# Altium integrated library Wurth_Elektronik_Passive_rev16a.IntLib: 1143 symbols (part 6 of 28)
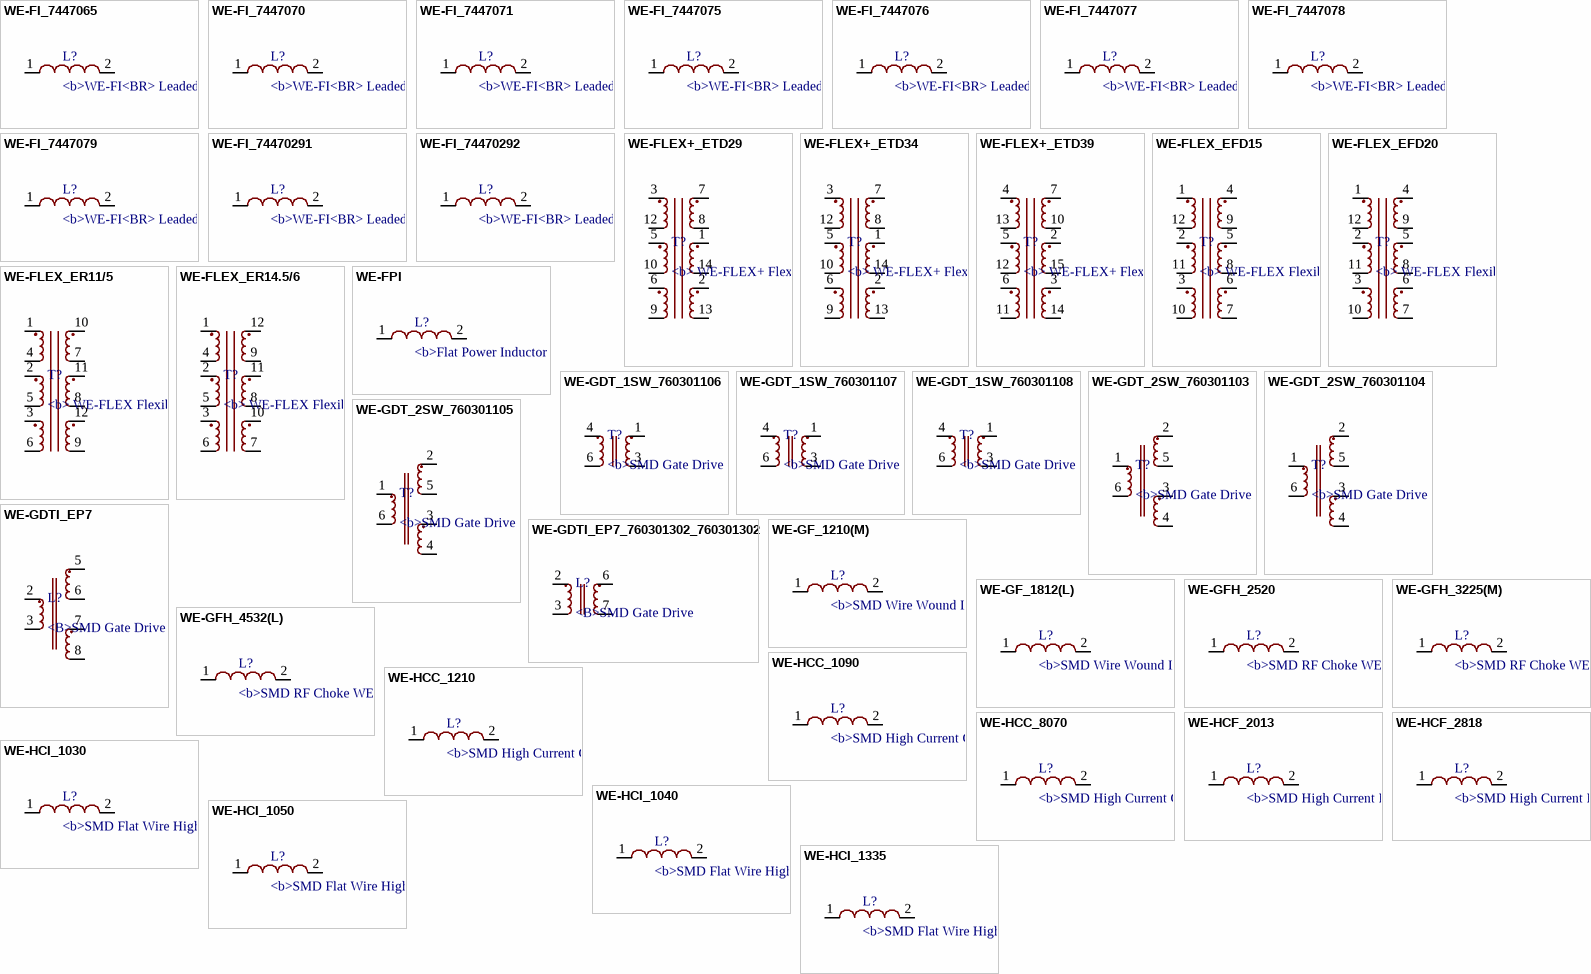
[diagram p63: symbols WE-FI_7447065 to WE-HCI_1335]

## WE-FI_7447070
designator L?, comment <b>WE-FI<BR> / Leaded Toroidal Line Choke</B> / <P> <font color="#0000FF"><B>Characteristics</B></font></td><BR> / Current loading up to 5 A<BR> / Iron powder cores with low losses<BR> / Low magnetically leakage field<BR> / Operating temperature: -25 C to +125 C<BR> / Custom designs on reques<BR> / <P> <font color="#0000FF"><B>Applications</B></font></td><BR> / Application in voltage transformers and power supplies<BR> / For interference frequencies up to 10 MHz; for switching frequencies up to 100 kHz<BR> / Perfect for filtering of symmetric interferences<BR> / <br><a href="http://katalog.we-online.de/media/thumbs2/eisos/thb_IndFI_pf2.jpg"> / <img src="http://katalog.we-online.de/media/thumbs2/eisos/thb_IndFI_pf2.jpg" width="320"></a><p> / Details see: <a href="http://katalog.we-online.de/pbs/datasheet/7447010.pdf">http://katalog.we-online.de/pbs/datasheet/7447010.pdf</a><p> / Updated on 2015-06-16<br> / 2015 (C) Wurth Elektronik
footprint WE-FI_7447070
pins: 1, 2

## WE-FI_7447071
designator L?, comment <b>WE-FI<BR> / Leaded Toroidal Line Choke</B> / <P> <font color="#0000FF"><B>Characteristics</B></font></td><BR> / Current loading up to 5 A<BR> / Iron powder cores with low losses<BR> / Low magnetically leakage field<BR> / Operating temperature: -25 C to +125 C<BR> / Custom designs on reques<BR> / <P> <font color="#0000FF"><B>Applications</B></font></td><BR> / Application in voltage transformers and power supplies<BR> / For interference frequencies up to 10 MHz; for switching frequencies up to 100 kHz<BR> / Perfect for filtering of symmetric interferences<BR> / <br><a href="http://katalog.we-online.de/media/thumbs2/eisos/thb_IndFI_pf2.jpg"> / <img src="http://katalog.we-online.de/media/thumbs2/eisos/thb_IndFI_pf2.jpg" width="320"></a><p> / Details see: <a href="http://katalog.we-online.de/pbs/datasheet/7447010.pdf">http://katalog.we-online.de/pbs/datasheet/7447010.pdf</a><p> / Updated on 2015-06-16<br> / 2015 (C) Wurth Elektronik
footprint WE-FI_7447071
pins: 1, 2

## WE-FI_7447075
designator L?, comment <b>WE-FI<BR> / Leaded Toroidal Line Choke</B> / <P> <font color="#0000FF"><B>Characteristics</B></font></td><BR> / Current loading up to 5 A<BR> / Iron powder cores with low losses<BR> / Low magnetically leakage field<BR> / Operating temperature: -25 C to +125 C<BR> / Custom designs on reques<BR> / <P> <font color="#0000FF"><B>Applications</B></font></td><BR> / Application in voltage transformers and power supplies<BR> / For interference frequencies up to 10 MHz; for switching frequencies up to 100 kHz<BR> / Perfect for filtering of symmetric interferences<BR> / <br><a href="http://katalog.we-online.de/media/thumbs2/eisos/thb_IndFI_pf2.jpg"> / <img src="http://katalog.we-online.de/media/thumbs2/eisos/thb_IndFI_pf2.jpg" width="320"></a><p> / Details see: <a href="http://katalog.we-online.de/pbs/datasheet/7447010.pdf">http://katalog.we-online.de/pbs/datasheet/7447010.pdf</a><p> / Updated on 2015-06-16<br> / 2015 (C) Wurth Elektronik
footprint WE-FI_7447075
pins: 1, 2

## WE-FI_7447076
designator L?, comment <b>WE-FI<BR> / Leaded Toroidal Line Choke</B> / <P> <font color="#0000FF"><B>Characteristics</B></font></td><BR> / Current loading up to 5 A<BR> / Iron powder cores with low losses<BR> / Low magnetically leakage field<BR> / Operating temperature: -25 C to +125 C<BR> / Custom designs on reques<BR> / <P> <font color="#0000FF"><B>Applications</B></font></td><BR> / Application in voltage transformers and power supplies<BR> / For interference frequencies up to 10 MHz; for switching frequencies up to 100 kHz<BR> / Perfect for filtering of symmetric interferences<BR> / <br><a href="http://katalog.we-online.de/media/thumbs2/eisos/thb_IndFI_pf2.jpg"> / <img src="http://katalog.we-online.de/media/thumbs2/eisos/thb_IndFI_pf2.jpg" width="320"></a><p> / Details see: <a href="http://katalog.we-online.de/pbs/datasheet/7447010.pdf">http://katalog.we-online.de/pbs/datasheet/7447010.pdf</a><p> / Updated on 2015-06-16<br> / 2015 (C) Wurth Elektronik
footprint WE-FI_7447076
pins: 1, 2

## WE-FI_7447077
designator L?, comment <b>WE-FI<BR> / Leaded Toroidal Line Choke</B> / <P> <font color="#0000FF"><B>Characteristics</B></font></td><BR> / Current loading up to 5 A<BR> / Iron powder cores with low losses<BR> / Low magnetically leakage field<BR> / Operating temperature: -25 C to +125 C<BR> / Custom designs on reques<BR> / <P> <font color="#0000FF"><B>Applications</B></font></td><BR> / Application in voltage transformers and power supplies<BR> / For interference frequencies up to 10 MHz; for switching frequencies up to 100 kHz<BR> / Perfect for filtering of symmetric interferences<BR> / <br><a href="http://katalog.we-online.de/media/thumbs2/eisos/thb_IndFI_pf2.jpg"> / <img src="http://katalog.we-online.de/media/thumbs2/eisos/thb_IndFI_pf2.jpg" width="320"></a><p> / Details see: <a href="http://katalog.we-online.de/pbs/datasheet/7447010.pdf">http://katalog.we-online.de/pbs/datasheet/7447010.pdf</a><p> / Updated on 2015-06-16<br> / 2015 (C) Wurth Elektronik
footprint WE-FI_7447077
pins: 1, 2

## WE-FI_7447078
designator L?, comment <b>WE-FI<BR> / Leaded Toroidal Line Choke</B> / <P> <font color="#0000FF"><B>Characteristics</B></font></td><BR> / Current loading up to 5 A<BR> / Iron powder cores with low losses<BR> / Low magnetically leakage field<BR> / Operating temperature: -25 C to +125 C<BR> / Custom designs on reques<BR> / <P> <font color="#0000FF"><B>Applications</B></font></td><BR> / Application in voltage transformers and power supplies<BR> / For interference frequencies up to 10 MHz; for switching frequencies up to 100 kHz<BR> / Perfect for filtering of symmetric interferences<BR> / <br><a href="http://katalog.we-online.de/media/thumbs2/eisos/thb_IndFI_pf2.jpg"> / <img src="http://katalog.we-online.de/media/thumbs2/eisos/thb_IndFI_pf2.jpg" width="320"></a><p> / Details see: <a href="http://katalog.we-online.de/pbs/datasheet/7447010.pdf">http://katalog.we-online.de/pbs/datasheet/7447010.pdf</a><p> / Updated on 2015-06-16<br> / 2015 (C) Wurth Elektronik
footprint WE-FI_7447078
pins: 1, 2

## WE-FI_7447079
designator L?, comment <b>WE-FI<BR> / Leaded Toroidal Line Choke</B> / <P> <font color="#0000FF"><B>Characteristics</B></font></td><BR> / Current loading up to 5 A<BR> / Iron powder cores with low losses<BR> / Low magnetically leakage field<BR> / Operating temperature: -25 C to +125 C<BR> / Custom designs on reques<BR> / <P> <font color="#0000FF"><B>Applications</B></font></td><BR> / Application in voltage transformers and power supplies<BR> / For interference frequencies up to 10 MHz; for switching frequencies up to 100 kHz<BR> / Perfect for filtering of symmetric interferences<BR> / <br><a href="http://katalog.we-online.de/media/thumbs2/eisos/thb_IndFI_pf2.jpg"> / <img src="http://katalog.we-online.de/media/thumbs2/eisos/thb_IndFI_pf2.jpg" width="320"></a><p> / Details see: <a href="http://katalog.we-online.de/pbs/datasheet/7447010.pdf">http://katalog.we-online.de/pbs/datasheet/7447010.pdf</a><p> / Updated on 2015-06-16<br> / 2015 (C) Wurth Elektronik
footprint WE-FI_7447079
pins: 1, 2

## WE-FI_74470291
designator L?, comment <b>WE-FI<BR> / Leaded Toroidal Line Choke</B> / <P> <font color="#0000FF"><B>Characteristics</B></font></td><BR> / Current loading up to 5 A<BR> / Iron powder cores with low losses<BR> / Low magnetically leakage field<BR> / Operating temperature: -25 C to +125 C<BR> / Custom designs on reques<BR> / <P> <font color="#0000FF"><B>Applications</B></font></td><BR> / Application in voltage transformers and power supplies<BR> / For interference frequencies up to 10 MHz; for switching frequencies up to 100 kHz<BR> / Perfect for filtering of symmetric interferences<BR> / <br><a href="http://katalog.we-online.de/media/thumbs2/eisos/thb_IndFI_pf2.jpg"> / <img src="http://katalog.we-online.de/media/thumbs2/eisos/thb_IndFI_pf2.jpg" width="320"></a><p> / Details see: <a href="http://katalog.we-online.de/pbs/datasheet/7447010.pdf">http://katalog.we-online.de/pbs/datasheet/7447010.pdf</a><p> / Updated on 2015-06-16<br> / 2015 (C) Wurth Elektronik
footprint WE-FI_74470291
pins: 1, 2

## WE-FI_74470292
designator L?, comment <b>WE-FI<BR> / Leaded Toroidal Line Choke</B> / <P> <font color="#0000FF"><B>Characteristics</B></font></td><BR> / Current loading up to 5 A<BR> / Iron powder cores with low losses<BR> / Low magnetically leakage field<BR> / Operating temperature: -25 C to +125 C<BR> / Custom designs on reques<BR> / <P> <font color="#0000FF"><B>Applications</B></font></td><BR> / Application in voltage transformers and power supplies<BR> / For interference frequencies up to 10 MHz; for switching frequencies up to 100 kHz<BR> / Perfect for filtering of symmetric interferences<BR> / <br><a href="http://katalog.we-online.de/media/thumbs2/eisos/thb_IndFI_pf2.jpg"> / <img src="http://katalog.we-online.de/media/thumbs2/eisos/thb_IndFI_pf2.jpg" width="320"></a><p> / Details see: <a href="http://katalog.we-online.de/pbs/datasheet/7447010.pdf">http://katalog.we-online.de/pbs/datasheet/7447010.pdf</a><p> / Updated on 2015-06-16<br> / 2015 (C) Wurth Elektronik
footprint WE-FI_74470292
pins: 1, 2

## WE-FLEX+_ETD29
designator T?, comment <b> WE-FLEX+ Flexible Transformer for DC/DC Converter / <br> / <br> / <br><b> Characteristics / <br> / <br></b></b> Transformer with 6 identical windings / <br> / <br> Power up to 300 W possible / <br> / <br> Isolation voltage 500 VDC / <br> / <br> Low leakage inductance / <br> / <br> Operating temperature: –40 °C to +125 °C / <br> / <br> / <br><b> Applications / <br> / <br></b> All kind of switching regulators / <br> -Flyback converters / <br> -Forward converters / <br> -Push-pull converters / <br> -Step-up/step-down converters / <br> -SEPIC converter / <br> / <br> / <br> / <br><a href="http://katalog.we-online.de/media/images/eisos/UtFlex_Plus_MID_pf2.jpg" title="Enlarge picture"> / <img src="http://katalog.we-online.de/media/images/eisos/UtFlex_Plus_MID_pf2.jpg" width="320"></a><p> / Details see: <a href="http://katalog.we-online.de/en/pbs/WE-FLEX_Plus?">http://katalog.we-online.de/en/pbs/WE-FLEX_Plus?</a><p> / Updated by  Dan Xu 2014-07-07<br> / 2014 (C) Wurth Elektronik
footprint WE_ETD29_THT_14PIN
pins: 1 4, 2 6, 3 1, 5 11, 6 9, 7 2, 8 3, 9 8, 10, 12, 13 7, 14 5

## WE-FLEX+_ETD34
designator T?, comment <b> WE-FLEX+ Flexible Transformer for DC/DC Converter / <br> / <br> / <br><b> Characteristics / <br> / <br></b></b> Transformer with 6 identical windings / <br> / <br> Power up to 300 W possible / <br> / <br> Isolation voltage 500 VDC / <br> / <br> Low leakage inductance / <br> / <br> Operating temperature: –40 °C to +125 °C / <br> / <br> / <br><b> Applications / <br> / <br></b> All kind of switching regulators / <br> -Flyback converters / <br> -Forward converters / <br> -Push-pull converters / <br> -Step-up/step-down converters / <br> -SEPIC converter / <br> / <br> / <br> / <br><a href="http://katalog.we-online.de/media/images/eisos/UtFlex_Plus_MID_pf2.jpg" title="Enlarge picture"> / <img src="http://katalog.we-online.de/media/images/eisos/UtFlex_Plus_MID_pf2.jpg" width="320"></a><p> / Details see: <a href="http://katalog.we-online.de/en/pbs/WE-FLEX_Plus?">http://katalog.we-online.de/en/pbs/WE-FLEX_Plus?</a><p> / Updated by  Dan Xu 2014-07-07<br> / 2014 (C) Wurth Elektronik
footprint WE_ETD34_THT_14PIN
pins: 1 4, 2 6, 3 1, 5 11, 6 9, 7 2, 8 3, 9 8, 10, 12, 13 7, 14 5

## WE-FLEX+_ETD39
designator T?, comment <b> WE-FLEX+ Flexible Transformer for DC/DC Converter / <br> / <br> / <br><b> Characteristics / <br> / <br></b></b> Transformer with 6 identical windings / <br> / <br> Power up to 300 W possible / <br> / <br> Isolation voltage 500 VDC / <br> / <br> Low leakage inductance / <br> / <br> Operating temperature: –40 °C to +125 °C / <br> / <br> / <br><b> Applications / <br> / <br></b> All kind of switching regulators / <br> -Flyback converters / <br> -Forward converters / <br> -Push-pull converters / <br> -Step-up/step-down converters / <br> -SEPIC converter / <br> / <br> / <br> / <br><a href="http://katalog.we-online.de/media/images/eisos/UtFlex_Plus_MID_pf2.jpg" title="Enlarge picture"> / <img src="http://katalog.we-online.de/media/images/eisos/UtFlex_Plus_MID_pf2.jpg" width="320"></a><p> / Details see: <a href="http://katalog.we-online.de/en/pbs/WE-FLEX_Plus?">http://katalog.we-online.de/en/pbs/WE-FLEX_Plus?</a><p> / Updated by  Dan Xu 2014-07-07<br> / 2014 (C) Wurth Elektronik
footprint WE_ETD39_THT_16PIN
pins: 2 4, 3 6, 4 1, 5 11, 6 9, 7 2, 10 3, 11 8, 12 10, 13 12, 14 7, 15 5

## WE-FLEX_EFD15
designator T?, comment <b> WE-FLEX Flexible Transformer for DC/DC Converter / <br> / <br> / <br><b> Characteristics / <br> / <br></b></b> Transformer with 6 identical windings / <BR> / <BR> 4 sizes with 5 different lengths of air gap each / <BR> / <BR> Insulation test voltage 500 VAC / <BR> / <BR> Low leakage inductance / <BR> / <BR> Operating temperature: –40 ºC to +125 ºC / <BR> / <BR> By using different circuits more than 375 transformer solutions and about 125 choke solutions possible. Consequently, quick prototyping possibilities / <br> / <br> / <br><b> Applications / <br> / <br></b> All kind of switching regulators / <br> / <br>-Flyback converters / <br>-Forward converters / <br>-Push-pull converters / <br>-Step-up/step-down converters / <br>-SEPIC converter / <br> / <br> / <br> / <br><a href="http://katalog.we-online.de/media/images/eisos/UtFlex_MID_pf2.jpg" title="Enlarge picture"> / <img src="http://katalog.we-online.de/media/images/eisos/UtFlex_MID_pf2.jpg" width="320"></a><p> / Details see: <a href="http://katalog.we-online.de/en/pbs/WE-FLEX?">http://katalog.we-online.de/en/pbs/WE-FLEX?</a><p> / Updated by  Dan Xu 2014-07-07<br> / 2014 (C) Wurth Elektronik
footprint WE-FLEX_EFD15
pins: 1, 2 11, 3 9, 4 2, 5 4, 6, 7, 8 5, 9 3, 10 8, 11 10, 12

## WE-FLEX_EFD20
designator T?, comment <b> WE-FLEX Flexible Transformer for DC/DC Converter / <br> / <br> / <br><b> Characteristics / <br> / <br></b></b> Transformer with 6 identical windings / <BR> / <BR> 4 sizes with 5 different lengths of air gap each / <BR> / <BR> Insulation test voltage 500 VAC / <BR> / <BR> Low leakage inductance / <BR> / <BR> Operating temperature: –40 ºC to +125 ºC / <BR> / <BR> By using different circuits more than 375 transformer solutions and about 125 choke solutions possible. Consequently, quick prototyping possibilities / <br> / <br> / <br><b> Applications / <br> / <br></b> All kind of switching regulators / <br> / <br>-Flyback converters / <br>-Forward converters / <br>-Push-pull converters / <br>-Step-up/step-down converters / <br>-SEPIC converter / <br> / <br> / <br> / <br><a href="http://katalog.we-online.de/media/images/eisos/UtFlex_MID_pf2.jpg" title="Enlarge picture"> / <img src="http://katalog.we-online.de/media/images/eisos/UtFlex_MID_pf2.jpg" width="320"></a><p> / Details see: <a href="http://katalog.we-online.de/en/pbs/WE-FLEX?">http://katalog.we-online.de/en/pbs/WE-FLEX?</a><p> / Updated by  Dan Xu 2014-07-07<br> / 2014 (C) Wurth Elektronik
footprint WE-FLEX_EFD20
pins: 1, 2 11, 3 9, 4 2, 5 4, 6, 7, 8 5, 9 3, 10 8, 11 10, 12

## WE-FLEX_ER11/5
designator T?, comment <b> WE-FLEX Flexible Transformer for DC/DC Converter / <br> / <br> / <br><b> Characteristics / <br> / <br></b></b> Transformer with 6 identical windings / <BR> / <BR> 4 sizes with 5 different lengths of air gap each / <BR> / <BR> Insulation test voltage 500 VAC / <BR> / <BR> Low leakage inductance / <BR> / <BR> Operating temperature: –40 ºC to +125 ºC / <BR> / <BR> By using different circuits more than 375 transformer solutions and about 125 choke solutions possible. Consequently, quick prototyping possibilities / <br> / <br> / <br><b> Applications / <br> / <br></b> All kind of switching regulators / <br> / <br>-Flyback converters / <br>-Forward converters / <br>-Push-pull converters / <br>-Step-up/step-down converters / <br>-SEPIC converter / <br> / <br> / <br> / <br><a href="http://katalog.we-online.de/media/images/eisos/UtFlex_MID_pf2.jpg" title="Enlarge picture"> / <img src="http://katalog.we-online.de/media/images/eisos/UtFlex_MID_pf2.jpg" width="320"></a><p> / Details see: <a href="http://katalog.we-online.de/en/pbs/WE-FLEX?">http://katalog.we-online.de/en/pbs/WE-FLEX?</a><p> / Updated by  Dan Xu 2014-07-07<br> / 2014 (C) Wurth Elektronik
footprint WE-FLEX_ER11/5
pins: 1, 2 11, 3 9, 4 12, 5 10, 6 8, 7 3, 8 5, 9 7, 10 2, 11 4, 12 6

## WE-FLEX_ER14.5/6
designator T?, comment <b> WE-FLEX Flexible Transformer for DC/DC Converter / <br> / <br> / <br><b> Characteristics / <br> / <br></b></b> Transformer with 6 identical windings / <BR> / <BR> 4 sizes with 5 different lengths of air gap each / <BR> / <BR> Insulation test voltage 500 VAC / <BR> / <BR> Low leakage inductance / <BR> / <BR> Operating temperature: –40 ºC to +125 ºC / <BR> / <BR> By using different circuits more than 375 transformer solutions and about 125 choke solutions possible. Consequently, quick prototyping possibilities / <br> / <br> / <br><b> Applications / <br> / <br></b> All kind of switching regulators / <br> / <br>-Flyback converters / <br>-Forward converters / <br>-Push-pull converters / <br>-Step-up/step-down converters / <br>-SEPIC converter / <br> / <br> / <br> / <br><a href="http://katalog.we-online.de/media/images/eisos/UtFlex_MID_pf2.jpg" title="Enlarge picture"> / <img src="http://katalog.we-online.de/media/images/eisos/UtFlex_MID_pf2.jpg" width="320"></a><p> / Details see: <a href="http://katalog.we-online.de/en/pbs/WE-FLEX?">http://katalog.we-online.de/en/pbs/WE-FLEX?</a><p> / Updated by  Dan Xu 2014-07-07<br> / 2014 (C) Wurth Elektronik
footprint WE-FLEX_ER14.5/6
pins: 1, 2 11, 3 9, 4 12, 5 10, 6 8, 7, 8 5, 9 3, 10 6, 11 4, 12 2

## WE-FPI
designator L?, comment <b>Flat Power Inductor WE-FPI</b><br><br> / - Extremely flat power inductor <= 1,1 mm<br> / - High current capability<br> / -- Portable power like PDA, digital camera, / PCMICA-cards and displays<br> / -- DC/DC-converter<br> / -- Recommended for switching regulator IC's from / Linear Technology, National Semiconductor, / Texas Instruments and Fairchild Semiconductor
footprint WE-FPI_744010...
pins: 1, 2

## WE-GDT_1SW_760301106
designator T?, comment <b>SMD Gate Drive Transformer WE-GDT</b><br><br> / <br> / <br><b> Characteristics<br></b> / - small form factor EP5<br> / - 1 or 2 secondary windings<br> / - 4 different turn rations<br> / - 1500VDC insulation test voltage<br> / - operating voltage up to 80V<br><br> / <br><b>Applications</b> / -- Gate Drive<br> / -- Signal<br> / -- Power<br> / -- Synchronous Flyback / <br><a href=http://katalog.we-online.de/media/images/eisos/IndGDT_MID_pf2.jpg" title="Enlarge picture"> / <img src="http://katalog.we-online.de/media/images/eisos/IndGDT_MID_pf2.jpg" width="320"></a><p> / Details see: <a href="http://katalog.we-online.de/en/pbs/WE-GDT?">http://katalog.we-online.de/en/pbs/WE-GDT?</a><p> / Updated by  Dan Xu 2014-05-19<br> / 2014 (C) Wurth Elektronik
footprint WE_EP5_SMD_6PIN
pins: 1 2, 3, 4 1, 6 4

## WE-GDT_1SW_760301107
designator T?, comment <b>SMD Gate Drive Transformer WE-GDT</b><br><br> / <br> / <br><b> Characteristics<br></b> / - small form factor EP5<br> / - 1 or 2 secondary windings<br> / - 4 different turn rations<br> / - 1500VDC insulation test voltage<br> / - operating voltage up to 80V<br><br> / <br><b>Applications</b> / -- Gate Drive<br> / -- Signal<br> / -- Power<br> / -- Synchronous Flyback / <br><a href=http://katalog.we-online.de/media/images/eisos/IndGDT_MID_pf2.jpg" title="Enlarge picture"> / <img src="http://katalog.we-online.de/media/images/eisos/IndGDT_MID_pf2.jpg" width="320"></a><p> / Details see: <a href="http://katalog.we-online.de/en/pbs/WE-GDT?">http://katalog.we-online.de/en/pbs/WE-GDT?</a><p> / Updated by  Dan Xu 2014-05-19<br> / 2014 (C) Wurth Elektronik
footprint WE_EP5_SMD_6PIN
pins: 1 2, 3, 4 1, 6 4

## WE-GDT_1SW_760301108
designator T?, comment <b>SMD Gate Drive Transformer WE-GDT</b><br><br> / <br> / <br><b> Characteristics<br></b> / - small form factor EP5<br> / - 1 or 2 secondary windings<br> / - 4 different turn rations<br> / - 1500VDC insulation test voltage<br> / - operating voltage up to 80V<br><br> / <br><b>Applications</b> / -- Gate Drive<br> / -- Signal<br> / -- Power<br> / -- Synchronous Flyback / <br><a href=http://katalog.we-online.de/media/images/eisos/IndGDT_MID_pf2.jpg" title="Enlarge picture"> / <img src="http://katalog.we-online.de/media/images/eisos/IndGDT_MID_pf2.jpg" width="320"></a><p> / Details see: <a href="http://katalog.we-online.de/en/pbs/WE-GDT?">http://katalog.we-online.de/en/pbs/WE-GDT?</a><p> / Updated by  Dan Xu 2014-05-19<br> / 2014 (C) Wurth Elektronik
footprint WE_EP5_SMD_6PIN
pins: 1 2, 3, 4 1, 6 4

## WE-GDT_2SW_760301103
designator T?, comment <b>SMD Gate Drive Transformer WE-GDT</b><br><br> / <br><b>Characteristics</b><br> / - small form factor EP5<br> / - 1 or 2 secondary windings<br> / - 4 different turn rations<br> / - 1500VDC insulation test voltage<br> / - operating voltage up to 80V<br><br> / <br><b>Applications</b><br> / -- Gate Drive<br> / -- Signal<br> / -- Power<br> / -- Synchronous Flyback / <br><a href=http://katalog.we-online.de/media/images/eisos/IndGDT_MID_pf2.jpg" title="Enlarge picture"> / <img src="http://katalog.we-online.de/media/images/eisos/IndGDT_MID_pf2.jpg" width="320"></a><p> / Details see: <a href="http://katalog.we-online.de/en/pbs/WE-GDT?">http://katalog.we-online.de/en/pbs/WE-GDT?</a><p> / Updated by  Dan Xu 2014-05-19<br> / 2014 (C) Wurth Elektronik
footprint WE_EP5_SMD_6PIN
pins: 1, 2, 3 4, 4 5, 5 3, 6

## WE-GDT_2SW_760301104
designator T?, comment <b>SMD Gate Drive Transformer WE-GDT</b><br><br> / <br><b>Characteristics</b><br> / - small form factor EP5<br> / - 1 or 2 secondary windings<br> / - 4 different turn rations<br> / - 1500VDC insulation test voltage<br> / - operating voltage up to 80V<br><br> / <br><b>Applications</b><br> / -- Gate Drive<br> / -- Signal<br> / -- Power<br> / -- Synchronous Flyback / <br><a href=http://katalog.we-online.de/media/images/eisos/IndGDT_MID_pf2.jpg" title="Enlarge picture"> / <img src="http://katalog.we-online.de/media/images/eisos/IndGDT_MID_pf2.jpg" width="320"></a><p> / Details see: <a href="http://katalog.we-online.de/en/pbs/WE-GDT?">http://katalog.we-online.de/en/pbs/WE-GDT?</a><p> / Updated by  Dan Xu 2014-05-19<br> / 2014 (C) Wurth Elektronik
footprint WE_EP5_SMD_6PIN
pins: 1, 2, 3 4, 4 5, 5 3, 6

## WE-GDT_2SW_760301105
designator T?, comment <b>SMD Gate Drive Transformer WE-GDT</b><br><br> / <br><b>Characteristics</b><br> / - small form factor EP5<br> / - 1 or 2 secondary windings<br> / - 4 different turn rations<br> / - 1500VDC insulation test voltage<br> / - operating voltage up to 80V<br><br> / <br><b>Applications</b><br> / -- Gate Drive<br> / -- Signal<br> / -- Power<br> / -- Synchronous Flyback / <br><a href=http://katalog.we-online.de/media/images/eisos/IndGDT_MID_pf2.jpg" title="Enlarge picture"> / <img src="http://katalog.we-online.de/media/images/eisos/IndGDT_MID_pf2.jpg" width="320"></a><p> / Details see: <a href="http://katalog.we-online.de/en/pbs/WE-GDT?">http://katalog.we-online.de/en/pbs/WE-GDT?</a><p> / Updated by  Dan Xu 2014-05-19<br> / 2014 (C) Wurth Elektronik
footprint WE_EP5_SMD_6PIN
pins: 1, 2, 3 4, 4 5, 5 3, 6

## WE-GDTI_EP7
designator L?, comment <B>SMD Gate Drive Transformer</b><br> / -1 or 2 secondary windings<br> / -6 turrns ration<br> / -2500 Vac testing voltage<br> / -Operating voltage up tp 250V<br> / <br> / <br> / --Gate Drive<br> / --Signal<br> / --Power<br> / <br><a href="http://katalog.we-online.de/media/images/eisos/UtGDTI_pf2.jpg" title="Enlarge picture"> / <img src="http://katalog.we-online.de/media/images/eisos/UtGDTI_pf2.jpg" width="320"></a><p> / Details see: <a href="http://katalog.we-online.de/en/pbs/WE-GDTI?">http://katalog.we-online.de/en/pbs/WE-GDTI?</a><p> / Created by  Dan Xu 2014-05-19<br> / 2014 (C) Wurth Elektronik
footprint WE-GDTI_EP7
pins: 2 1, 3 6, 5 2, 6 3, 7 4, 8 5

## WE-GDTI_EP7_760301302_760301302
designator L?, comment <B>SMD Gate Drive Transformer</b><br> / -1 or 2 secondary windings<br> / -6 turrns ration<br> / -2500 Vac testing voltage<br> / -Operating voltage up tp 250V<br> / <br> / <br> / --Gate Drive<br> / --Signal<br> / --Power<br> / <br><a href="http://katalog.we-online.de/media/images/eisos/UtGDTI_pf2.jpg" title="Enlarge picture"> / <img src="http://katalog.we-online.de/media/thumbs2/eisos/thb_UtGDTI_pf2.jpg" width="320"></a><p> / Details see: <a href="http://katalog.we-online.de/en/pbs/WE-GDTI/760301302">http://katalog.we-online.de/en/pbs/WE-GDTI/760301302</a><p> / Created by  Dan Xu 2014-05-19<br> / 2014 (C) Wurth Elektronik
footprint WE-GDTI_EP7
pins: 2 1, 3 4, 6 2, 7 3

## WE-GF_1210(M)
designator L?, comment <b>SMD Wire Wound Inductor / <br> / <br> / <br><b>Characteristics<br></b></b> / <br> / <br> Wire wound on ferrite / <br> / <br> Operating temperature: –40 °C to +105 °C / <br> / <br> High resistance against dampness / <br> / <br><b> Applications / <br> / <br></b> RF circuits like tuner, transponder etc. / <br> / <br> RF amplifier circuits like antennas amplifier / <br> / <br> Oscillator / <br> / <br> Filter circuits / <br> / <br> Amplification circuits / <br><a href=http://katalog.we-online.de/media/images/eisos/IndGF_pf2.jpg" title="Enlarge picture"> / <img src="http://katalog.we-online.de/media/images/eisos/IndGF_pf2.jpg" width="320"></a><p> / Details see: <a href="http://katalog.we-online.de/en/pbs/WE-GF?">http://katalog.we-online.de/en/pbs/WE-GF?</a><p> / Updated by  Dan Xu 2014-05-19<br> / 2014 (C) Wurth Elektronik
footprint WE-GF_1210
pins: 1, 2

## WE-GF_1812(L)
designator L?, comment <b>SMD Wire Wound Inductor / <br> / <br> / <br><b>Characteristics<br></b></b> / <br> / <br> Wire wound on ferrite / <br> / <br> Operating temperature: –40 °C to +105 °C / <br> / <br> High resistance against dampness / <br> / <br><b> Applications / <br> / <br></b> RF circuits like tuner, transponder etc. / <br> / <br> RF amplifier circuits like antennas amplifier / <br> / <br> Oscillator / <br> / <br> Filter circuits / <br> / <br> Amplification circuits / <br><a href=http://katalog.we-online.de/media/images/eisos/IndGF_pf2.jpg" title="Enlarge picture"> / <img src="http://katalog.we-online.de/media/images/eisos/IndGF_pf2.jpg" width="320"></a><p> / Details see: <a href="http://katalog.we-online.de/en/pbs/WE-GF?">http://katalog.we-online.de/en/pbs/WE-GF?</a><p> / Updated by  Dan Xu 2014-05-19<br> / 2014 (C) Wurth Elektronik
footprint WE-GF_1812
pins: 1, 2

## WE-GFH_2520
designator L?, comment <b>SMD RF Choke WE-GFH</b><p> / - Wire wound ferrite<br> / - For higher currents<p> / -- HF-circuits like tuner, transponder etc.
footprint WE-GFH_2520
pins: 1, 2

## WE-GFH_3225(M)
designator L?, comment <b>SMD RF Choke WE-GFH</b><p> / - Wire wound ferrite<br> / - For higher currents<p> / -- HF-circuits like tuner, transponder etc.
footprint WE-GFH_M
pins: 1, 2

## WE-GFH_4532(L)
designator L?, comment <b>SMD RF Choke WE-GFH</b><p> / - Wire wound ferrite<br> / - For higher currents<p> / -- HF-circuits like tuner, transponder etc.
footprint WE-GFH_L
pins: 1, 2

## WE-HCC_1090
designator L?, comment <b>SMD High Current Cube Inductor / <br> / <br><b>Characteristics / <br> / <br></b></b> Magnetically shielded / <br> / <br> Operating temperature: –40 °C to +125 °C / <br> / <br> Current capability up to 27 A / <br> / <br> Excellent saturation characteristics / <br> / <br><b> Applications / <br> / <br></b> Filter choke for DC/DC converter / <br> / <br> Single and polyphase buck converter / <br> / <br> Filter choke for motor electronics / <br> / <br> / <br><a href=http://katalog.we-online.de/media/images/eisos/IndHCC_pf2.jpg" title="Enlarge picture"> / <img src="http://katalog.we-online.de/media/images/eisos/IndHCC_pf2.jpg" width="320"></a><p> / Details see: <a href="http://katalog.we-online.de/en/pbs/WE-HCC?">http://katalog.we-online.de/en/pbs/WE-HCC?</a><p> / Updated by  Dan Xu 2014-05-19<br> / 2014 (C) Wurth Elektronik
footprint WE-HCC_1090
pins: 1, 2

## WE-HCC_1210
designator L?, comment <b>SMD High Current Cube Inductor / <br> / <br><b>Characteristics / <br> / <br></b></b> Magnetically shielded / <br> / <br> Operating temperature: –40 °C to +125 °C / <br> / <br> Current capability up to 27 A / <br> / <br> Excellent saturation characteristics / <br> / <br><b> Applications / <br> / <br></b> Filter choke for DC/DC converter / <br> / <br> Single and polyphase buck converter / <br> / <br> Filter choke for motor electronics / <br> / <br> / <br><a href=http://katalog.we-online.de/media/images/eisos/IndHCC_pf2.jpg" title="Enlarge picture"> / <img src="http://katalog.we-online.de/media/images/eisos/IndHCC_pf2.jpg" width="320"></a><p> / Details see: <a href="http://katalog.we-online.de/en/pbs/WE-HCC?">http://katalog.we-online.de/en/pbs/WE-HCC?</a><p> / Updated by  Dan Xu 2014-05-19<br> / 2014 (C) Wurth Elektronik
footprint WE-HCC_1210
pins: 1, 2

## WE-HCC_8070
designator L?, comment <b>SMD High Current Cube Inductor / <br> / <br><b>Characteristics / <br> / <br></b></b> Magnetically shielded / <br> / <br> Operating temperature: –40 °C to +125 °C / <br> / <br> Current capability up to 27 A / <br> / <br> Excellent saturation characteristics / <br> / <br><b> Applications / <br> / <br></b> Filter choke for DC/DC converter / <br> / <br> Single and polyphase buck converter / <br> / <br> Filter choke for motor electronics / <br> / <br> / <br><a href=http://katalog.we-online.de/media/images/eisos/IndHCC_pf2.jpg" title="Enlarge picture"> / <img src="http://katalog.we-online.de/media/images/eisos/IndHCC_pf2.jpg" width="320"></a><p> / Details see: <a href="http://katalog.we-online.de/en/pbs/WE-HCC?">http://katalog.we-online.de/en/pbs/WE-HCC?</a><p> / Updated by  Dan Xu 2014-05-19<br> / 2014 (C) Wurth Elektronik
footprint WE-HCC_8070
pins: 1, 2

## WE-HCF_2013
designator L?, comment <b>SMD High Current Inductor / <br> / <br> / <br><b>Characteristics / <br> / <br></b></b> Saturation current up to 75 A / <br> / <br> Very low core losses (MnZn) / <br> / <br> Magnetically shielded / <br> / <br> Operating temperature: –40 °C to +125 °C / <br> / <br> Current capability up to 32 A / <br> / <br> / <br><b>Applications / <br> / <br></b> Storage inductor for high efficiency DC/DC converters / <br> / <br> Single and polyphase buck converters / <br> / <br> Filter for audio applications / <br> / <br> Optimized for high current boost applications / <br> / <br> / <br> / <br><a href=http://katalog.we-online.de/media/images/eisos/IndHCF_pf2.jpg" title="Enlarge picture"> / <img src="http://katalog.we-online.de/media/images/eisos/IndHCF_pf2.jpg" width="320"></a><p> / Details see: <a href="http://katalog.we-online.de/en/pbs/WE-HCF#vs_ct:1">http://katalog.we-online.de/en/pbs/WE-HCF#vs_ct:1</a><p> / Updated by  Dan Xu 2014-07-07<br> / 2014 (C) Wurth Elektronik
footprint WE-HCF_2013
pins: 1, 2

## WE-HCF_2818
designator L?, comment <b>SMD High Current Inductor / <br> / <br> / <br><b>Characteristics / <br> / <br></b></b> Saturation current up to 75 A / <br> / <br> Very low core losses (MnZn) / <br> / <br> Magnetically shielded / <br> / <br> Operating temperature: –40 °C to +125 °C / <br> / <br> Current capability up to 32 A / <br> / <br> / <br><b>Applications / <br> / <br></b> Storage inductor for high efficiency DC/DC converters / <br> / <br> Single and polyphase buck converters / <br> / <br> Filter for audio applications / <br> / <br> Optimized for high current boost applications / <br> / <br> / <br> / <br><a href=http://katalog.we-online.de/media/images/eisos/IndHCF_pf2.jpg" title="Enlarge picture"> / <img src="http://katalog.we-online.de/media/images/eisos/IndHCF_pf2.jpg" width="320"></a><p> / Details see: <a href="http://katalog.we-online.de/en/pbs/WE-HCF#vs_ct:1">http://katalog.we-online.de/en/pbs/WE-HCF#vs_ct:1</a><p> / Updated by  Dan Xu 2014-07-07<br> / 2014 (C) Wurth Elektronik
footprint WE-HCF_2818
pins: 1, 2

## WE-HCI_1030
designator L?, comment <b>SMD Flat Wire High Current Inductor / <br> / <br> / <br><b> Characteristics / <br> / <br></b></b> Magnetically shielded / <br> / <br> Flat wire coil for low losses at high frequency / <br> / <br> Low stray field / <br> / <br> Operating temperature: –40 °C to +150/155 °C / <br> / <br><b>Applications</B> / <br> / <br> Graphic cards / <br> / <br> Laptops / <br> / <br> Industrial computers / <br> / <br> Motherboards / <br> / <br> High current switching regulators / <br> / <br> DC/DC converter / <br> / <br> Polyphase-switching regulators / <br> / <br> Filter / <br> / <br> / <br><a href=http://katalog.we-online.de/media/images/eisos/IndHCI_pf2.jpg" title="Enlarge picture"> / <img src="http://katalog.we-online.de/media/images/eisos/IndHCI_pf2.jpg" width="320"></a><p> / Details see: <a href="http://katalog.we-online.de/en/pbs/WE-HCI?">http://katalog.we-online.de/en/pbs/WE-HCI?</a><p> / Updated by  Dan Xu 2014-07-07<br> / 2014 (C) Wurth Elektronik
footprint WE-HCI_1030
pins: 1, 2

## WE-HCI_1040
designator L?, comment <b>SMD Flat Wire High Current Inductor / <br> / <br> / <br><b> Characteristics / <br> / <br></b></b> Magnetically shielded / <br> / <br> Flat wire coil for low losses at high frequency / <br> / <br> Low stray field / <br> / <br> Operating temperature: –40 °C to +150/155 °C / <br> / <br><b>Applications</B> / <br> / <br> Graphic cards / <br> / <br> Laptops / <br> / <br> Industrial computers / <br> / <br> Motherboards / <br> / <br> High current switching regulators / <br> / <br> DC/DC converter / <br> / <br> Polyphase-switching regulators / <br> / <br> Filter / <br> / <br> / <br><a href=http://katalog.we-online.de/media/images/eisos/IndHCI_pf2.jpg" title="Enlarge picture"> / <img src="http://katalog.we-online.de/media/images/eisos/IndHCI_pf2.jpg" width="320"></a><p> / Details see: <a href="http://katalog.we-online.de/en/pbs/WE-HCI?">http://katalog.we-online.de/en/pbs/WE-HCI?</a><p> / Updated by  Dan Xu 2014-07-07<br> / 2014 (C) Wurth Elektronik
footprint WE-HCI_1040
pins: 1, 2

## WE-HCI_1050
designator L?, comment <b>SMD Flat Wire High Current Inductor / <br> / <br> / <br><b> Characteristics / <br> / <br></b></b> Magnetically shielded / <br> / <br> Flat wire coil for low losses at high frequency / <br> / <br> Low stray field / <br> / <br> Operating temperature: –40 °C to +150/155 °C / <br> / <br><b>Applications</B> / <br> / <br> Graphic cards / <br> / <br> Laptops / <br> / <br> Industrial computers / <br> / <br> Motherboards / <br> / <br> High current switching regulators / <br> / <br> DC/DC converter / <br> / <br> Polyphase-switching regulators / <br> / <br> Filter / <br> / <br> / <br><a href=http://katalog.we-online.de/media/images/eisos/IndHCI_pf2.jpg" title="Enlarge picture"> / <img src="http://katalog.we-online.de/media/images/eisos/IndHCI_pf2.jpg" width="320"></a><p> / Details see: <a href="http://katalog.we-online.de/en/pbs/WE-HCI?">http://katalog.we-online.de/en/pbs/WE-HCI?</a><p> / Updated by  Dan Xu 2014-07-07<br> / 2014 (C) Wurth Elektronik
footprint WE-HCI_1050
pins: 1, 2

## WE-HCI_1335
designator L?, comment <b>SMD Flat Wire High Current Inductor / <br> / <br> / <br><b> Characteristics / <br> / <br></b></b> Magnetically shielded / <br> / <br> Flat wire coil for low losses at high frequency / <br> / <br> Low stray field / <br> / <br> Operating temperature: –40 °C to +150/155 °C / <br> / <br><b>Applications</B> / <br> / <br> Graphic cards / <br> / <br> Laptops / <br> / <br> Industrial computers / <br> / <br> Motherboards / <br> / <br> High current switching regulators / <br> / <br> DC/DC converter / <br> / <br> Polyphase-switching regulators / <br> / <br> Filter / <br> / <br> / <br><a href=http://katalog.we-online.de/media/images/eisos/IndHCI_pf2.jpg" title="Enlarge picture"> / <img src="http://katalog.we-online.de/media/images/eisos/IndHCI_pf2.jpg" width="320"></a><p> / Details see: <a href="http://katalog.we-online.de/en/pbs/WE-HCI?">http://katalog.we-online.de/en/pbs/WE-HCI?</a><p> / Updated by  Dan Xu 2014-07-07<br> / 2014 (C) Wurth Elektronik
footprint WE-HCI_1335
pins: 1, 2

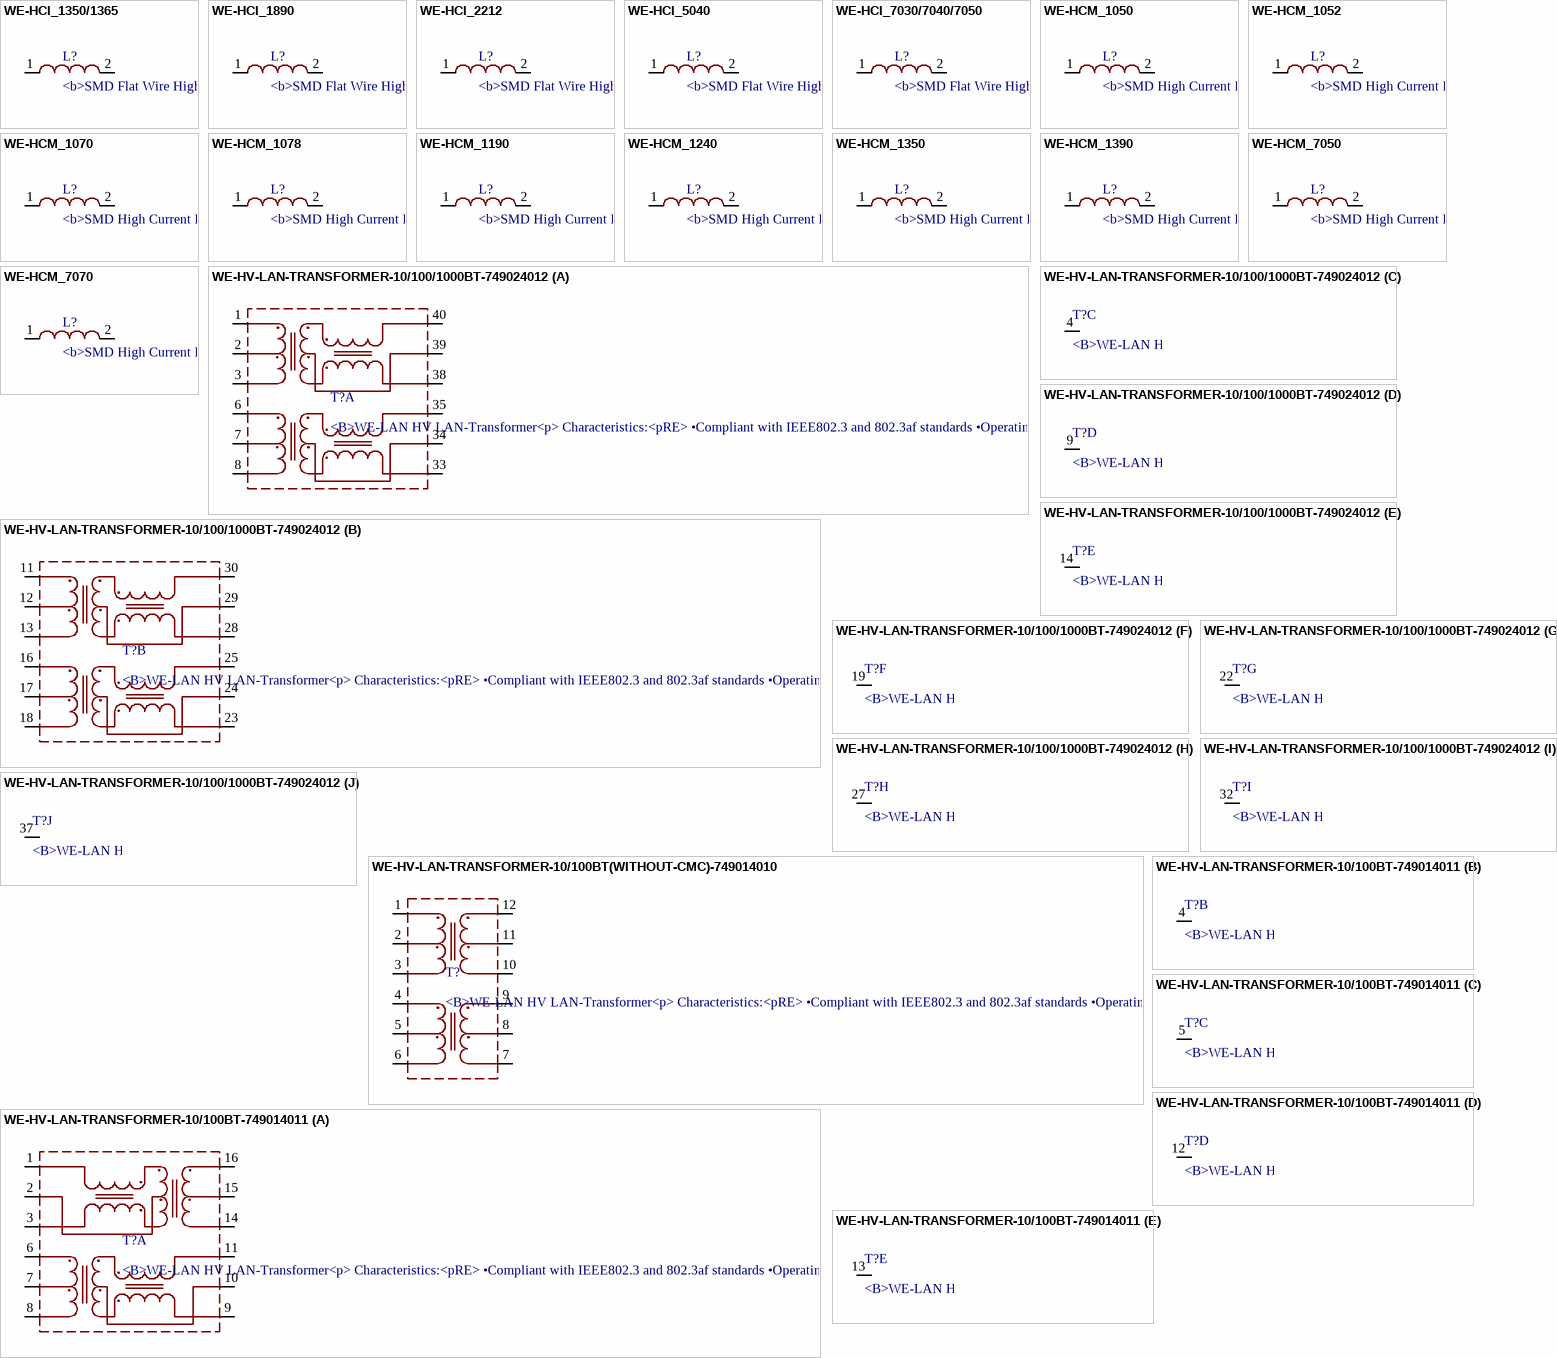
[diagram p9: symbols WE-HCI_1350/1365 to WE-HV-LAN-TRANSFORMER-10/100BT-749014011]

## WE-HCI_1350/1365
designator L?, comment <b>SMD Flat Wire High Current Inductor / <br> / <br> / <br><b> Characteristics / <br> / <br></b></b> Magnetically shielded / <br> / <br> Flat wire coil for low losses at high frequency / <br> / <br> Low stray field / <br> / <br> Operating temperature: –40 °C to +150/155 °C / <br> / <br><b>Applications</B> / <br> / <br> Graphic cards / <br> / <br> Laptops / <br> / <br> Industrial computers / <br> / <br> Motherboards / <br> / <br> High current switching regulators / <br> / <br> DC/DC converter / <br> / <br> Polyphase-switching regulators / <br> / <br> Filter / <br> / <br> / <br><a href=http://katalog.we-online.de/media/images/eisos/IndHCI_pf2.jpg" title="Enlarge picture"> / <img src="http://katalog.we-online.de/media/images/eisos/IndHCI_pf2.jpg" width="320"></a><p> / Details see: <a href="http://katalog.we-online.de/en/pbs/WE-HCI?">http://katalog.we-online.de/en/pbs/WE-HCI?</a><p> / Updated by  Dan Xu 2014-07-07<br> / 2014 (C) Wurth Elektronik
footprint WE-HCI_1350/1365
pins: 1, 2

## WE-HCI_1890
designator L?, comment <b>SMD Flat Wire High Current Inductor / <br> / <br> / <br><b> Characteristics / <br> / <br></b></b> Magnetically shielded / <br> / <br> Flat wire coil for low losses at high frequency / <br> / <br> Low stray field / <br> / <br> Operating temperature: –40 °C to +150/155 °C / <br> / <br><b>Applications</B> / <br> / <br> Graphic cards / <br> / <br> Laptops / <br> / <br> Industrial computers / <br> / <br> Motherboards / <br> / <br> High current switching regulators / <br> / <br> DC/DC converter / <br> / <br> Polyphase-switching regulators / <br> / <br> Filter / <br> / <br> / <br><a href=http://katalog.we-online.de/media/images/eisos/IndHCI_pf2.jpg" title="Enlarge picture"> / <img src="http://katalog.we-online.de/media/images/eisos/IndHCI_pf2.jpg" width="320"></a><p> / Details see: <a href="http://katalog.we-online.de/en/pbs/WE-HCI?">http://katalog.we-online.de/en/pbs/WE-HCI?</a><p> / Updated by  Dan Xu 2014-07-07<br> / 2014 (C) Wurth Elektronik
footprint WE-HCI_1890
pins: 1, 2

## WE-HCI_2212
designator L?, comment <b>SMD Flat Wire High Current Inductor / <br> / <br> / <br><b> Characteristics / <br> / <br></b></b> Magnetically shielded / <br> / <br> Flat wire coil for low losses at high frequency / <br> / <br> Low stray field / <br> / <br> Operating temperature: –40 °C to +150/155 °C / <br> / <br><b>Applications</B> / <br> / <br> Graphic cards / <br> / <br> Laptops / <br> / <br> Industrial computers / <br> / <br> Motherboards / <br> / <br> High current switching regulators / <br> / <br> DC/DC converter / <br> / <br> Polyphase-switching regulators / <br> / <br> Filter / <br> / <br> / <br><a href=http://katalog.we-online.de/media/images/eisos/IndHCI_pf2.jpg" title="Enlarge picture"> / <img src="http://katalog.we-online.de/media/images/eisos/IndHCI_pf2.jpg" width="320"></a><p> / Details see: <a href="http://katalog.we-online.de/en/pbs/WE-HCI?">http://katalog.we-online.de/en/pbs/WE-HCI?</a><p> / Updated by  Dan Xu 2014-07-07<br> / 2014 (C) Wurth Elektronik
footprint WE-HCI_2212
pins: 1, 2

## WE-HCI_5040
designator L?, comment <b>SMD Flat Wire High Current Inductor / <br> / <br> / <br><b> Characteristics / <br> / <br></b></b> Magnetically shielded / <br> / <br> Flat wire coil for low losses at high frequency / <br> / <br> Low stray field / <br> / <br> Operating temperature: –40 °C to +150/155 °C / <br> / <br><b>Applications</B> / <br> / <br> Graphic cards / <br> / <br> Laptops / <br> / <br> Industrial computers / <br> / <br> Motherboards / <br> / <br> High current switching regulators / <br> / <br> DC/DC converter / <br> / <br> Polyphase-switching regulators / <br> / <br> Filter / <br> / <br> / <br><a href=http://katalog.we-online.de/media/images/eisos/IndHCI_pf2.jpg" title="Enlarge picture"> / <img src="http://katalog.we-online.de/media/images/eisos/IndHCI_pf2.jpg" width="320"></a><p> / Details see: <a href="http://katalog.we-online.de/en/pbs/WE-HCI?">http://katalog.we-online.de/en/pbs/WE-HCI?</a><p> / Updated by  Dan Xu 2014-07-07<br> / 2014 (C) Wurth Elektronik
footprint WE-HCI_5040
pins: 1, 2

## WE-HCI_7030/7040/7050
designator L?, comment <b>SMD Flat Wire High Current Inductor / <br> / <br> / <br><b> Characteristics / <br> / <br></b></b> Magnetically shielded / <br> / <br> Flat wire coil for low losses at high frequency / <br> / <br> Low stray field / <br> / <br> Operating temperature: –40 °C to +150/155 °C / <br> / <br><b>Applications</B> / <br> / <br> Graphic cards / <br> / <br> Laptops / <br> / <br> Industrial computers / <br> / <br> Motherboards / <br> / <br> High current switching regulators / <br> / <br> DC/DC converter / <br> / <br> Polyphase-switching regulators / <br> / <br> Filter / <br> / <br> / <br><a href=http://katalog.we-online.de/media/images/eisos/IndHCI_pf2.jpg" title="Enlarge picture"> / <img src="http://katalog.we-online.de/media/images/eisos/IndHCI_pf2.jpg" width="320"></a><p> / Details see: <a href="http://katalog.we-online.de/en/pbs/WE-HCI?">http://katalog.we-online.de/en/pbs/WE-HCI?</a><p> / Updated by  Dan Xu 2014-07-07<br> / 2014 (C) Wurth Elektronik
footprint WE-HCI_7030/7040/7050
pins: 1, 2

## WE-HCM_1050
designator L?, comment <b>SMD High Current Flat Wire Inductor / <br> / <br><b>Characteristics / <br> / <br></b></b> Lowest core losses (MnZn) / <br> / <br> High saturation current up to 81 A / <br> / <br> Extremly low RDC / <br> / <br> Magnetically shielded / <br> / <br> RDC tolerance ± 7% / <br> / <br> Operating temperature: –40 °C to +125 °C / <br> / <br><b>Applications / <br> / <br></b> Multiphase switching regulator / <br> / <br> CPU/RAM power supply / <br> / <br> Power PC / <br> / <br> Filter / <br> / <br> / <br><a href=http://katalog.we-online.de/media/images/eisos/IndHCM_pf2.jpg" title="Enlarge picture"> / <img src="http://katalog.we-online.de/media/images/eisos/IndHCM_pf2.jpg" width="320"></a><p> / Details see: <a href="http://katalog.we-online.de/en/pbs/WE-HCM?">http://katalog.we-online.de/en/pbs/WE-HCM?</a><p> / Updated by  Dan Xu 2014-07-07<br> / 2014 (C) Wurth Elektronik
footprint WE-HCM_1050
pins: 1, 2

## WE-HCM_1052
designator L?, comment <b>SMD High Current Flat Wire Inductor / <br> / <br><b>Characteristics / <br> / <br></b></b> Lowest core losses (MnZn) / <br> / <br> High saturation current up to 81 A / <br> / <br> Extremly low RDC / <br> / <br> Magnetically shielded / <br> / <br> RDC tolerance ± 7% / <br> / <br> Operating temperature: –40 °C to +125 °C / <br> / <br><b>Applications / <br> / <br></b> Multiphase switching regulator / <br> / <br> CPU/RAM power supply / <br> / <br> Power PC / <br> / <br> Filter / <br> / <br> / <br><a href=http://katalog.we-online.de/media/images/eisos/IndHCM_pf2.jpg" title="Enlarge picture"> / <img src="http://katalog.we-online.de/media/images/eisos/IndHCM_pf2.jpg" width="320"></a><p> / Details see: <a href="http://katalog.we-online.de/en/pbs/WE-HCM?">http://katalog.we-online.de/en/pbs/WE-HCM?</a><p> / Updated by  Dan Xu 2014-07-07<br> / 2014 (C) Wurth Elektronik
footprint WE-HCM_1052
pins: 1, 2

## WE-HCM_1070
designator L?, comment <b>SMD High Current Flat Wire Inductor / <br> / <br><b>Characteristics / <br> / <br></b></b> Lowest core losses (MnZn) / <br> / <br> High saturation current up to 81 A / <br> / <br> Extremly low RDC / <br> / <br> Magnetically shielded / <br> / <br> RDC tolerance ± 7% / <br> / <br> Operating temperature: –40 °C to +125 °C / <br> / <br><b>Applications / <br> / <br></b> Multiphase switching regulator / <br> / <br> CPU/RAM power supply / <br> / <br> Power PC / <br> / <br> Filter / <br> / <br> / <br><a href=http://katalog.we-online.de/media/images/eisos/IndHCM_pf2.jpg" title="Enlarge picture"> / <img src="http://katalog.we-online.de/media/images/eisos/IndHCM_pf2.jpg" width="320"></a><p> / Details see: <a href="http://katalog.we-online.de/en/pbs/WE-HCM?">http://katalog.we-online.de/en/pbs/WE-HCM?</a><p> / Updated by  Dan Xu 2014-07-07<br> / 2014 (C) Wurth Elektronik
footprint WE-HCM_1070
pins: 1, 2

## WE-HCM_1078
designator L?, comment <b>SMD High Current Flat Wire Inductor / <br> / <br><b>Characteristics / <br> / <br></b></b> Lowest core losses (MnZn) / <br> / <br> High saturation current up to 81 A / <br> / <br> Extremly low RDC / <br> / <br> Magnetically shielded / <br> / <br> RDC tolerance ± 7% / <br> / <br> Operating temperature: –40 °C to +125 °C / <br> / <br><b>Applications / <br> / <br></b> Multiphase switching regulator / <br> / <br> CPU/RAM power supply / <br> / <br> Power PC / <br> / <br> Filter / <br> / <br> / <br><a href=http://katalog.we-online.de/media/images/eisos/IndHCM_pf2.jpg" title="Enlarge picture"> / <img src="http://katalog.we-online.de/media/images/eisos/IndHCM_pf2.jpg" width="320"></a><p> / Details see: <a href="http://katalog.we-online.de/en/pbs/WE-HCM?">http://katalog.we-online.de/en/pbs/WE-HCM?</a><p> / Updated by  Dan Xu 2014-07-07<br> / 2014 (C) Wurth Elektronik
footprint WE-HCM_1078
pins: 1, 2

## WE-HCM_1190
designator L?, comment <b>SMD High Current Flat Wire Inductor / <br> / <br><b>Characteristics / <br> / <br></b></b> Lowest core losses (MnZn) / <br> / <br> High saturation current up to 81 A / <br> / <br> Extremly low RDC / <br> / <br> Magnetically shielded / <br> / <br> RDC tolerance ± 7% / <br> / <br> Operating temperature: –40 °C to +125 °C / <br> / <br><b>Applications / <br> / <br></b> Multiphase switching regulator / <br> / <br> CPU/RAM power supply / <br> / <br> Power PC / <br> / <br> Filter / <br> / <br> / <br><a href=http://katalog.we-online.de/media/images/eisos/IndHCM_pf2.jpg" title="Enlarge picture"> / <img src="http://katalog.we-online.de/media/images/eisos/IndHCM_pf2.jpg" width="320"></a><p> / Details see: <a href="http://katalog.we-online.de/en/pbs/WE-HCM?">http://katalog.we-online.de/en/pbs/WE-HCM?</a><p> / Updated by  Dan Xu 2014-07-07<br> / 2014 (C) Wurth Elektronik
footprint WE-HCM_1190
pins: 1, 2

## WE-HCM_1240
designator L?, comment <b>SMD High Current Flat Wire Inductor / <br> / <br><b>Characteristics / <br> / <br></b></b> Lowest core losses (MnZn) / <br> / <br> High saturation current up to 81 A / <br> / <br> Extremly low RDC / <br> / <br> Magnetically shielded / <br> / <br> RDC tolerance ± 7% / <br> / <br> Operating temperature: –40 °C to +125 °C / <br> / <br><b>Applications / <br> / <br></b> Multiphase switching regulator / <br> / <br> CPU/RAM power supply / <br> / <br> Power PC / <br> / <br> Filter / <br> / <br> / <br><a href=http://katalog.we-online.de/media/images/eisos/IndHCM_pf2.jpg" title="Enlarge picture"> / <img src="http://katalog.we-online.de/media/images/eisos/IndHCM_pf2.jpg" width="320"></a><p> / Details see: <a href="http://katalog.we-online.de/en/pbs/WE-HCM?">http://katalog.we-online.de/en/pbs/WE-HCM?</a><p> / Updated by  Dan Xu 2014-07-07<br> / 2014 (C) Wurth Elektronik
footprint WE-HCM_1240
pins: 1, 2

## WE-HCM_1350
designator L?, comment <b>SMD High Current Flat Wire Inductor / <br> / <br><b>Characteristics / <br> / <br></b></b> Lowest core losses (MnZn) / <br> / <br> High saturation current up to 81 A / <br> / <br> Extremly low RDC / <br> / <br> Magnetically shielded / <br> / <br> RDC tolerance ± 7% / <br> / <br> Operating temperature: –40 °C to +125 °C / <br> / <br><b>Applications / <br> / <br></b> Multiphase switching regulator / <br> / <br> CPU/RAM power supply / <br> / <br> Power PC / <br> / <br> Filter / <br> / <br> / <br><a href=http://katalog.we-online.de/media/images/eisos/IndHCM_pf2.jpg" title="Enlarge picture"> / <img src="http://katalog.we-online.de/media/images/eisos/IndHCM_pf2.jpg" width="320"></a><p> / Details see: <a href="http://katalog.we-online.de/en/pbs/WE-HCM?">http://katalog.we-online.de/en/pbs/WE-HCM?</a><p> / Updated by  Dan Xu 2014-07-07<br> / 2014 (C) Wurth Elektronik
footprint WE-HCM_1350
pins: 1, 2

## WE-HCM_1390
designator L?, comment <b>SMD High Current Flat Wire Inductor / <br> / <br><b>Characteristics / <br> / <br></b></b> Lowest core losses (MnZn) / <br> / <br> High saturation current up to 81 A / <br> / <br> Extremly low RDC / <br> / <br> Magnetically shielded / <br> / <br> RDC tolerance ± 7% / <br> / <br> Operating temperature: –40 °C to +125 °C / <br> / <br><b>Applications / <br> / <br></b> Multiphase switching regulator / <br> / <br> CPU/RAM power supply / <br> / <br> Power PC / <br> / <br> Filter / <br> / <br> / <br><a href=http://katalog.we-online.de/media/images/eisos/IndHCM_pf2.jpg" title="Enlarge picture"> / <img src="http://katalog.we-online.de/media/images/eisos/IndHCM_pf2.jpg" width="320"></a><p> / Details see: <a href="http://katalog.we-online.de/en/pbs/WE-HCM?">http://katalog.we-online.de/en/pbs/WE-HCM?</a><p> / Updated by  Dan Xu 2014-07-07<br> / 2014 (C) Wurth Elektronik
footprint WE-HCM_1390
pins: 1, 2

## WE-HCM_7050
designator L?, comment <b>SMD High Current Flat Wire Inductor / <br> / <br><b>Characteristics / <br> / <br></b></b> Lowest core losses (MnZn) / <br> / <br> High saturation current up to 81 A / <br> / <br> Extremly low RDC / <br> / <br> Magnetically shielded / <br> / <br> RDC tolerance ± 7% / <br> / <br> Operating temperature: –40 °C to +125 °C / <br> / <br><b>Applications / <br> / <br></b> Multiphase switching regulator / <br> / <br> CPU/RAM power supply / <br> / <br> Power PC / <br> / <br> Filter / <br> / <br> / <br><a href=http://katalog.we-online.de/media/images/eisos/IndHCM_pf2.jpg" title="Enlarge picture"> / <img src="http://katalog.we-online.de/media/images/eisos/IndHCM_pf2.jpg" width="320"></a><p> / Details see: <a href="http://katalog.we-online.de/en/pbs/WE-HCM?">http://katalog.we-online.de/en/pbs/WE-HCM?</a><p> / Updated by  Dan Xu 2014-07-07<br> / 2014 (C) Wurth Elektronik
footprint WE-HCM_7050
pins: 1, 2